# EAGLE library part MAG-JACK (library we-con)
RJ45 MagJack (with integrated magnetics) Wuerth 7499011222A (THT) UDE 57-00013QL11-1 (THT, Low Profile) Taimag RJSL-002TC1 (SMD, Low Profile)
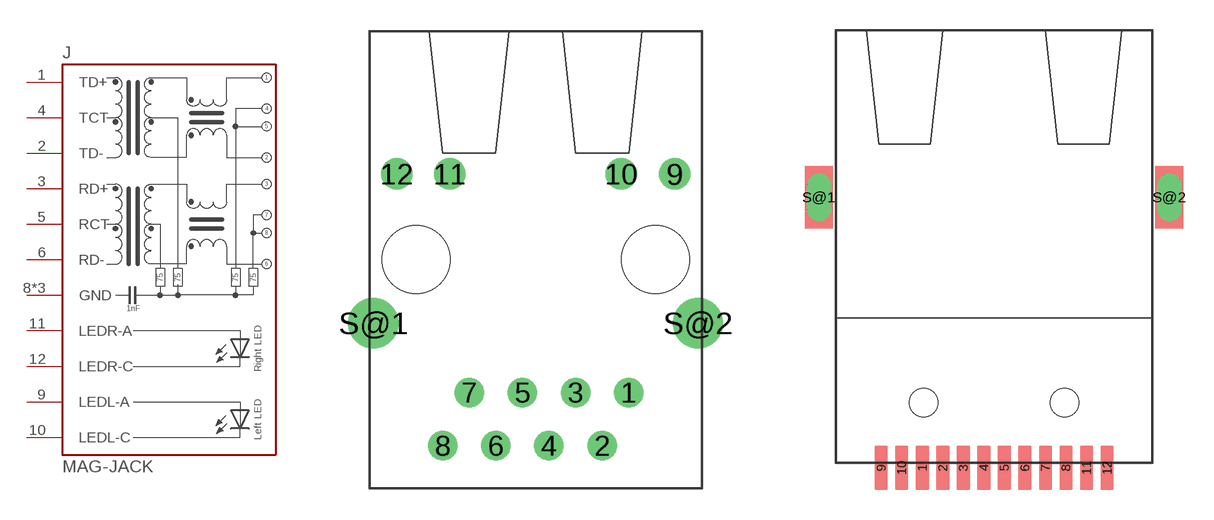
[diagram p34: symbol with the pads of RJ45_7499011222A; footprints RJ45_7499011222A, RJ45_RJSL-002TC1]

Designator prefix J

## MAG-JACK-7499011222A  [RJ45_7499011222A]
1  TD+  pas
2  TD-  pas
3  RD+  pas
4  TCT  pas
5  RCT  pas
6  RD-  pas
8  GND  pas
9  LEDL-A  in
10  LEDL-C  in
11  LEDR-A  in
12  LEDR-C  in
S@1  GND  pas
S@2  GND  pas

## MAG-JACK-RJSL-002TC1  [RJ45_RJSL-002TC1]
1  TD+  pas
2  TD-  pas
3  TCT  pas
6  RCT  pas
7  RD+  pas
8  RD-  pas
9  LEDR-C  in
10  LEDR-A  in
11  LEDL-C  in
12  LEDL-A  in
S@1  GND  pas
S@2  GND  pas

## MAG-JACK-57-00013QL11-1  [RJ45_57-00013QL11-1]
1  TD+  pas
2  TD-  pas
3  RD+  pas
4  TCT  pas
5  RCT  pas
6  RD-  pas
L1  LEDR-C  in
L2  LEDR-A  in
L3  LEDL-C  in
L4  LEDL-A  in
S@1  GND  pas
S@2  GND  pas

## Footprint RJ45_7499011222A (pad centres in mm)
Wueth 7499011222A
drill 0.9 pad 1.4: 1 4.445,-6.35; 2 3.175,-8.89; 3 1.905,-6.35; 4 0.635,-8.89; 5 -0.635,-6.35; 6 -1.905,-8.89; 7 -3.175,-6.35; 8 -4.445,-8.89
drill 1 pad 1.4: 9 6.63,4.08; 10 4.09,4.08; 11 -4.09,4.08; 12 -6.63,4.08
drill 1.6 pad 2.4: S@1 -7.745,-3.05; S@2 7.745,-3.05
hole 3.25 at 5.715,0
hole 3.25 at -5.715,0

## Footprint RJ45_RJSL-002TC1 (pad centres in mm)
Taimag RJSL-002TC1
smd 0.65 x 2.2: 1 -3.57,-11; 2 -2.55,-11; 3 -1.53,-11; 4 -0.51,-11; 5 0.51,-11; 6 1.53,-11; 7 2.55,-11; 8 3.57,-11; 9 -5.61,-11; 10 -4.59,-11; 11 4.59,-11; 12 5.61,-11
drill 0.5 pad 1.2 long: S@1 -8.7,2.45; S@2 8.7,2.45
hole 1.42 at -3.5,-7.75
hole 1.42 at 3.5,-7.75

## Footprint RJ45_57-00013QL11-1 (pad centres in mm)
UDE 57-00013QL11-1
drill 0.9: 1 -5.075,-11.66; 2 -4.06,-13.66; 3 -3.045,-11.66; 4 -2.03,-13.66; 5 -1.015,-11.66; 6 0,-13.66; 7 1.015,-11.66; 8 2.03,-13.66; 9 3.045,-11.66; 10 4.06,-13.66; 11 5.075,-11.66; L1 -7.105,-11.66; L2 -6.09,-13.66; L3 6.09,-13.66; L4 7.105,-11.66
drill 0.5 pad 2 long: S@1 -9.8,2; S@2 9.8,2